# Altium integrated library ALTIUM-WE-SHC-rev17b.IntLib: 24 symbols
Pins are listed as number, name and electrical type; pins without a type are passive.

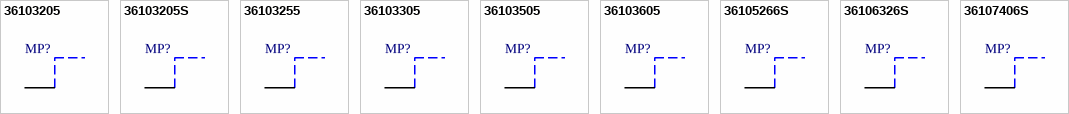
[diagram p0: symbols 36103205 to 36107406S]

## 36103205
designator MP?
WE-SHC Shielding Cabinet, SMD Frame, 20 x 20 x 3 mm; Part Number: 36103205; Published Date: Dec. 2016; Publisher: Wurth Elektronik; ComponentLink1Description: Manufacturer; ComponentLink1URL: http://www.we-online.de; ComponentLink2Description: Datasheet; ComponentLink2URL: http://katalog.we-online.de/pbs/datasheet/36103205.pdf; Type: SMD Frame; Size: 20 x 20 x 3 mm
footprint 36103205 (Shielding Cabinet, SMD Frame, body 21x21mm)
pins: 1

## 36103205S
designator MP?
WE-SHC Shielding Cabinet, SMD Frame, 20 x 20 x 3 mm; Part Number: 36103205S; Published Date: April 2017; Publisher: Wurth Elektronik; ComponentLink1Description: Manufacturer; ComponentLink1URL: http://www.we-online.de; ComponentLink2Description: Datasheet; ComponentLink2URL: http://katalog.we-online.de/pbs/datasheet/36103205S.pdf; Type: SMD Frame; Size: 20 x 20 x 3 mm
footprint 36103205S (Footprint not found)
pins: 1

## 36103255
designator MP?
WE-SHC Shielding Cabinet, SMD Frame, 25 x 25 x 3 mm; Part Number: 36103255; Published Date: Dec. 2016; Publisher: Wurth Elektronik; ComponentLink1Description: Manufacturer; ComponentLink1URL: http://www.we-online.de; ComponentLink2Description: Datasheet; ComponentLink2URL: http://katalog.we-online.de/pbs/datasheet/36103255.pdf; Type: SMD Frame; Size: 25 x 25 x 3 mm
footprint 36103255 (Shielding Cabinet, SMD Frame, body 25x25mm)
pins: 1

## 36103305
designator MP?
WE-SHC Shielding Cabinet, SMD Frame, 30 x 30 x 3 mm; Part Number: 36103305; Published Date: Dec. 2016; Publisher: Wurth Elektronik; ComponentLink1Description: Manufacturer; ComponentLink1URL: http://www.we-online.de; ComponentLink2Description: Datasheet; ComponentLink2URL: http://katalog.we-online.de/pbs/datasheet/36103305.pdf; Type: SMD Frame; Size: 30 x 30 x 3 mm
footprint 36103305 (Shielding Cabinet, SMD Frame, body 30x30mm)
pins: 1

## 36103505
designator MP?
WE-SHC Shielding Cabinet, SMD Frame, 50 x 50 x 3 mm; Part Number: 36103505; Published Date: Dec. 2016; Publisher: Wurth Elektronik; ComponentLink1Description: Manufacturer; ComponentLink1URL: http://www.we-online.de; ComponentLink2Description: Datasheet; ComponentLink2URL: http://katalog.we-online.de/pbs/datasheet/36103505.pdf; Type: SMD Frame; Size: 50 x 50 x 3 mm
footprint 36103505 (Shielding Cabinet, SMD Frame, body 50x50mm)
pins: 1

## 36103605
designator MP?
WE-SHC Shielding Cabinet, SMD Frame, 60 x 60 x 3 mm; Part Number: 36103605; Published Date: Dec. 2016; Publisher: Wurth Elektronik; ComponentLink1Description: Manufacturer; ComponentLink1URL: http://www.we-online.de; ComponentLink2Description: Datasheet; ComponentLink2URL: http://katalog.we-online.de/pbs/datasheet/36103605.pdf; Type: SMD Frame; Size: 60 x 60 x 3 mm
footprint 36103605 (Shielding Cabinet, SMD Frame, body 60x60mm)
pins: 1

## 36105266S
designator MP?
WE-SHC Shielding Cabinet, SMD Frame, 25.81 x 25.81 x 4.88 mm; Part Number: 36105266S; Published Date: Dec. 2016; Publisher: Wurth Elektronik; ComponentLink1Description: Manufacturer; ComponentLink1URL: http://www.we-online.de; ComponentLink2Description: Datasheet; ComponentLink2URL: http://katalog.we-online.de/pbs/datasheet/36105266S.pdf; Type: SMD Frame; Size: 25.81 x 25.81 x 4.88 mm
footprint 36105266S (Shielding Cabinet, SMD Frame, body 25.81x25.81mm)
pins: 1

## 36106326S
designator MP?
WE-SHC Shielding Cabinet, SMD Frame, 31.6 x 31.6 x 5.8 mm; Part Number: 36106326S; Published Date: Dec. 2016; Publisher: Wurth Elektronik; ComponentLink1Description: Manufacturer; ComponentLink1URL: http://www.we-online.de; ComponentLink2Description: Datasheet; ComponentLink2URL: http://katalog.we-online.de/pbs/datasheet/36106326S.pdf; Type: SMD Frame; Size: 31.6 x 31.6 x 5.8 mm
footprint 36106326S (Shielding Cabinet, SMD Frame, body 31.6x31.6mm)
pins: 1

## 36107406S
designator MP?
WE-SHC Shielding Cabinet, SMD Frame, 43.97 x 43.97 x 9.55 mm; Part Number: 36107406S; Published Date: Dec. 2016; Publisher: Wurth Elektronik; ComponentLink1Description: Manufacturer; ComponentLink1URL: http://www.we-online.de; ComponentLink2Description: Datasheet; ComponentLink2URL: http://katalog.we-online.de/pbs/datasheet/36107406S.pdf; Type: SMD Frame; Size: 43.97 x 43.97 x 9.55 mm
footprint 36107406S (Shielding Cabinet, SMD Frame, body 43.97x43.97mm)
pins: 1


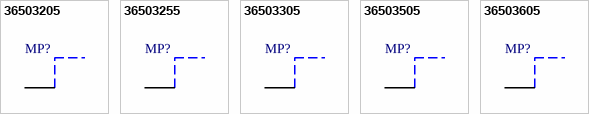
[diagram p1: symbols 36503205 to 36503605]

## 36503205
designator MP?
WE-SHC Shielding Cabinet, THT Frame, 20 x 20 x 3 mm; Part Number: 36503205; Published Date: Dec. 2016; Publisher: Wurth Elektronik; ComponentLink1Description: Manufacturer; ComponentLink1URL: http://www.we-online.de; ComponentLink2Description: Datasheet; ComponentLink2URL: http://katalog.we-online.de/pbs/datasheet/36503205.pdf; Type: THT Frame; Size: 20 x 20 x 3 mm
footprint 36503205 (Shielding Cabinet, THT Frame, body 20x20mm)
pins: 1

## 36503255
designator MP?
WE-SHC Shielding Cabinet, THT Frame, 25 x 25 x 3 mm; Part Number: 36503255; Published Date: Dec. 2016; Publisher: Wurth Elektronik; ComponentLink1Description: Manufacturer; ComponentLink1URL: http://www.we-online.de; ComponentLink2Description: Datasheet; ComponentLink2URL: http://katalog.we-online.de/pbs/datasheet/36503255.pdf; Type: THT Frame; Size: 25 x 25 x 3 mm
footprint 36503255 (Shielding Cabinet, THT Frame, body 25x25mm)
pins: 1

## 36503305
designator MP?
WE-SHC Shielding Cabinet, THT Frame, 30 x 30 x 3 mm; Part Number: 36503305; Published Date: Dec. 2016; Publisher: Wurth Elektronik; ComponentLink1Description: Manufacturer; ComponentLink1URL: http://www.we-online.de; ComponentLink2Description: Datasheet; ComponentLink2URL: http://katalog.we-online.de/pbs/datasheet/36503305.pdf; Type: THT Frame; Size: 30 x 30 x 3 mm
footprint 36503305 (Shielding Cabinet, THT Frame, body 30x30mm)
pins: 1

## 36503505
designator MP?
WE-SHC Shielding Cabinet, THT Frame, 50 x 50 x 3 mm; Part Number: 36503505; Published Date: Dec. 2016; Publisher: Wurth Elektronik; ComponentLink1Description: Manufacturer; ComponentLink1URL: http://www.we-online.de; ComponentLink2Description: Datasheet; ComponentLink2URL: http://katalog.we-online.de/pbs/datasheet/36503505.pdf; Type: THT Frame; Size: 50 x 50 x 3 mm
footprint 36503505 (Shielding Cabinet, THT Frame, body 50x50mm)
pins: 1

## 36503605
designator MP?
WE-SHC Shielding Cabinet, THT Frame, 60 x 60 x 3 mm; Part Number: 36503605; Published Date: Dec. 2016; Publisher: Wurth Elektronik; ComponentLink1Description: Manufacturer; ComponentLink1URL: http://www.we-online.de; ComponentLink2Description: Datasheet; ComponentLink2URL: http://katalog.we-online.de/pbs/datasheet/36503605.pdf; Type: THT Frame; Size: 60 x 60 x 3 mm
footprint 36503605 (Shielding Cabinet, THT Frame, body 60x60mm)
pins: 1


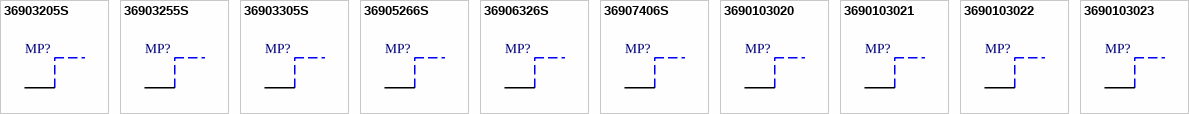
[diagram p2: symbols 36903205S to 3690103023]

## 36903205S
designator MP?
WE-SHC Shielding Cabinet, One Piece, 20 x 20 x 3 mm; Part Number: 36903205S; Published Date: Dec. 2016; Publisher: Wurth Elektronik; ComponentLink1Description: Manufacturer; ComponentLink1URL: http://www.we-online.de; ComponentLink2Description: Datasheet; ComponentLink2URL: http://katalog.we-online.de/pbs/datasheet/36903205S.pdf; Type: One Piece; Size: 20 x 20 x 3 mm
footprint 36903205S (Shielding Cabinet, body 20x20mm)
pins: 1

## 36903255S
designator MP?
WE-SHC Shielding Cabinet, One Piece, 25 x 25 x 3 mm; Part Number: 36903255S; Published Date: Dec. 2016; Publisher: Wurth Elektronik; ComponentLink1Description: Manufacturer; ComponentLink1URL: http://www.we-online.de; ComponentLink2Description: Datasheet; ComponentLink2URL: http://katalog.we-online.de/pbs/datasheet/36903255S.pdf; Type: One Piece; Size: 25 x 25 x 3 mm
footprint 36903255S (Shielding Cabinet, body 25x25mm)
pins: 1

## 36903305S
designator MP?
WE-SHC Shielding Cabinet, One Piece, 30 x 30 x 3 mm; Part Number: 36903305S; Published Date: Dec. 2016; Publisher: Wurth Elektronik; ComponentLink1Description: Manufacturer; ComponentLink1URL: http://www.we-online.de; ComponentLink2Description: Datasheet; ComponentLink2URL: http://katalog.we-online.de/pbs/datasheet/36903305S.pdf; Type: One Piece; Size: 30 x 30 x 3 mm
footprint 36903305S (Shielding Cabinet, body 30x30mm)
pins: 1

## 36905266S
designator MP?
WE-SHC Shielding Cabinet, One Piece, 25.81 x 25.81 x 4.88 mm; Part Number: 36905266S; Published Date: Dec. 2016; Publisher: Wurth Elektronik; ComponentLink1Description: Manufacturer; ComponentLink1URL: http://www.we-online.de; ComponentLink2Description: Datasheet; ComponentLink2URL: http://katalog.we-online.de/pbs/datasheet/36905266S.pdf; Type: One Piece; Size: 25.81 x 25.81 x 4.88 mm
footprint 36905266S (Shielding Cabinet, body 25.81x25.81mm)
pins: 1

## 36906326S
designator MP?
WE-SHC Shielding Cabinet, One Piece, 31.6 x 31.6 x 5.8 mm; Part Number: 36906326S; Published Date: Dec. 2016; Publisher: Wurth Elektronik; ComponentLink1Description: Manufacturer; ComponentLink1URL: http://www.we-online.de; ComponentLink2Description: Datasheet; ComponentLink2URL: http://katalog.we-online.de/pbs/datasheet/36906326S.pdf; Type: One Piece; Size: 31.6 x 31.6 x 5.8 mm
footprint 36906326S (Shielding Cabinet, body 32x32mm)
pins: 1

## 36907406S
designator MP?
WE-SHC Shielding Cabinet, One Piece, 43.97 x 43.97 x 9.55 mm; Part Number: 36907406S; Published Date: Dec. 2016; Publisher: Wurth Elektronik; ComponentLink1Description: Manufacturer; ComponentLink1URL: http://www.we-online.de; ComponentLink2Description: Datasheet; ComponentLink2URL: http://katalog.we-online.de/pbs/datasheet/36907406S.pdf; Type: One Piece; Size: 43.97 x 43.97 x 9.55 mm
footprint 36907406S (Shielding Cabinet, body 44.37x44.37mm)
pins: 1

## 3690103020
designator MP?
WE-SHC Shielding Cabinet, One Piece, 3.1 x 3.1 x 0.89 mm; Part Number: 3690103020; Published Date: Dec. 2016; Publisher: Wurth Elektronik; ComponentLink1Description: Manufacturer; ComponentLink1URL: http://www.we-online.de; ComponentLink2Description: Datasheet; ComponentLink2URL: http://katalog.we-online.de/pbs/datasheet/3690103020.pdf; Type: One Piece; Size: 3.1 x 3.1 x 0.89 mm
footprint 3690103020 (Shielding Cabinet, body 3.1x3.1mm)
pins: 1

## 3690103021
designator MP?
WE-SHC Shielding Cabinet, One Piece, 3.1 x 3.1 x 0.89 mm; Part Number: 3690103021; Published Date: Dec. 2016; Publisher: Wurth Elektronik; ComponentLink1Description: Manufacturer; ComponentLink1URL: http://www.we-online.de; ComponentLink2Description: Datasheet; ComponentLink2URL: http://katalog.we-online.de/pbs/datasheet/3690103021.pdf; Type: One Piece; Size: 3.1 x 3.1 x 0.89 mm
footprint 3690103021
pins: 1

## 3690103022
designator MP?
WE-SHC Shielding Cabinet, One Piece, 3.1 x 3.1 x 0.89 mm; Part Number: 3690103022; Published Date: Dec. 2016; Publisher: Wurth Elektronik; ComponentLink1Description: Manufacturer; ComponentLink1URL: http://www.we-online.de; ComponentLink2Description: Datasheet; ComponentLink2URL: http://katalog.we-online.de/pbs/datasheet/3690103022.pdf; Type: One Piece; Size: 3.1 x 3.1 x 0.89 mm
footprint 3690103022 (Shielding Cabinet, body 3.1x3.1mm)
pins: 1

## 3690103023
designator MP?
WE-SHC Shielding Cabinet, One Piece, 3.1 x 3.1 x 0.89 mm; Part Number: 3690103023; Published Date: Dec. 2016; Publisher: Wurth Elektronik; ComponentLink1Description: Manufacturer; ComponentLink1URL: http://www.we-online.de; ComponentLink2Description: Datasheet; ComponentLink2URL: http://katalog.we-online.de/pbs/datasheet/3690103023.pdf; Type: One Piece; Size: 3.1 x 3.1 x 0.89 mm
footprint 3690103023 (Shielding Cabinet, body 3.1x3.1mm)
pins: 1